# Altium integrated library Silicon Labs Modems and DAAs.IntLib: 95 symbols (part 6 of 7)
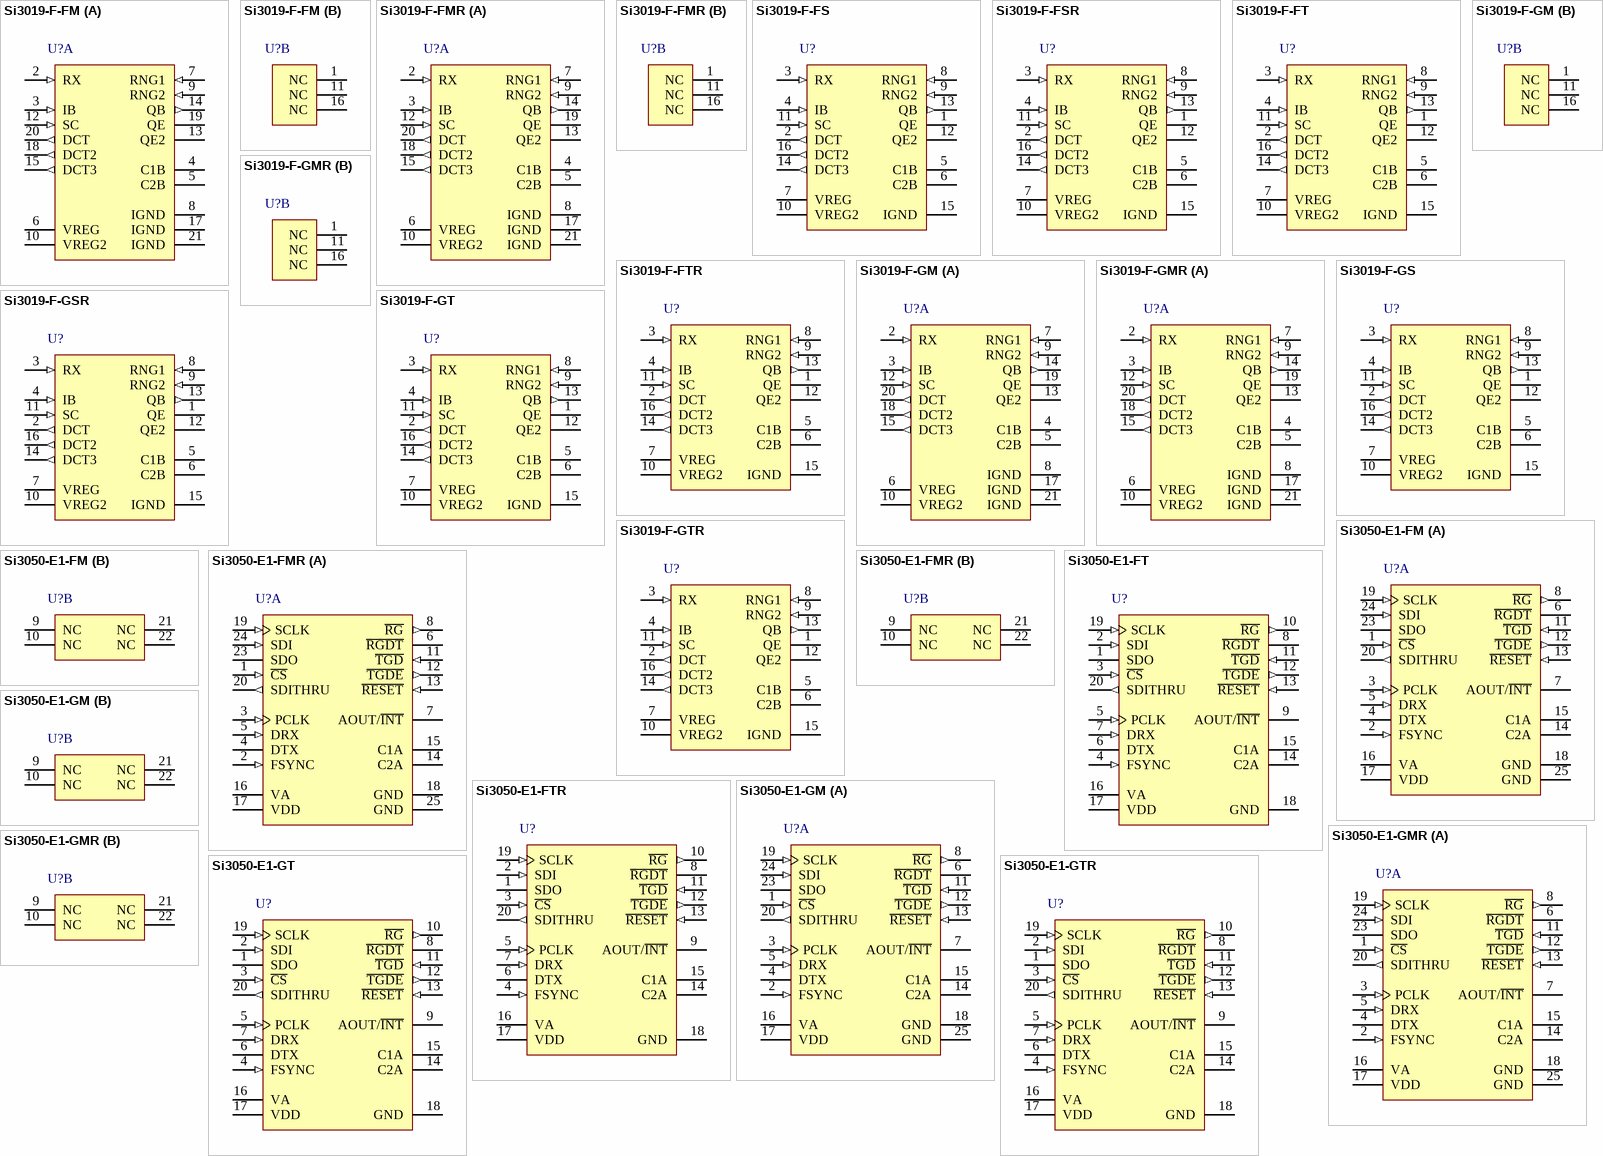
[diagram p9: symbols Si3019-F-FM to Si3050-E1-GTR]

## Si3050-E1-FT
designator U?
Programmable Voice DAA Solutions with Line Voltage Monitor, 0 to 70 degC, 20-pin SOP, Tube; Manufacturer: Silicon Labs; PartNumber: Si3050-E1-FT; AC Termination Settings: 2, 4, 16; Host Interface: GCI; PCM/SPI; Line Voltage Monitor: TRUE; Region: Global; Sub-Family: Silicon DAAs; DatasheetVersion: Rev. 1.5; PackageReference: TSSOP-20; PackageDescription: 20-Pin Thin Shrink Small-Outline Package, Body 6.5 x 4.4 mm, Pitch 0.65 mm; Supplier 1: Digi-Key; Supplier Part Number 1: SI3050-E1-FT-ND; Supplier 2: Mouser; Supplier Part Number 2: 634-SI3050-E1-FT; Packing: Tube; Mounting Technology: Surface Mount; Code_JEDEC: MO-153; Code_IPC: J-STD-020; ComponentLink1Description: Manufacturer URL; ComponentLink1URL: http://www.silabs.com/; ComponentLink2Description: Datasheet; ComponentLink2URL: http://www.silabs.com/Support%20Documents/TechnicalDocs/Si3050-11-18-19.pdf; ComponentLink3Description: Package Specification; ComponentLink3URL: http://www.silabs.com/Support Documents/TechnicalDocs/C8051F52x-F53x.pdf
footprint SLAB-TSSOP-20_N (SOP, 20-Leads, Body 6.6x4.5mm, Pitch 0.65mm, , IPC Medium Density)
footprint SLAB-TSSOP-20_L (SOP, 20-Leads, Body 6.6x4.5mm, Pitch 0.65mm, IPC High Density)
footprint SLAB-TSSOP-20_M (SOP, 20-Leads, Body 6.6x4.5mm, Pitch 0.65mm, IPC Low Density)
pins: 1 SDO (hiz) "Serial Port Data Output.", 2 SDI (in) "Serial Port Data Input.", 3 ~{CS} (in) "Chip Select Input.", 4 FSYNC (in) "Frame Sync Input.", 5 PCLK (in) "Master Clock Input.", 6 DTX (hiz) "Transmit PCM or GCI Highway Data Output.", 7 DRX (in) "Receive PCM or GCI Highway Data Input.", 8 ~{RGDT} (oc) "Ring Detect Output", 9 AOUT/~{INT} (oc) "Analog Speaker Output/Interrupt Output.", 10 ~{RG} (out) "Ring Ground Output.", 11 ~{TGD} (in) "TIP Ground Detect Input.", 12 ~{TGDE} (out) "TIP Ground Detect Enable Output.", 13 ~{RESET} (in) "Reset Input.", 14 C2A "Isolation Capacitor 2A.", 15 C1A "Isolation Capacitor 1A.", 16 VA (power) "Regulator Voltage Reference.", 17 VDD (power) "Digital Supply Voltage", 18 GND (power) "Ground", 19 SCLK (in) "Serial Port Bit Clock Input.", 20 SDITHRU (out) "SDI Passthrough Output."

## Si3050-E1-FTR
designator U?
Programmable Voice DAA Solutions with Line Voltage Monitor, 0 to 70 degC, 20-pin SOP, Tape and Reel; Manufacturer: Silicon Labs; PartNumber: Si3050-E1-FTR; AC Termination Settings: 2, 4, 16; Host Interface: GCI; PCM/SPI; Line Voltage Monitor: TRUE; Region: Global; Sub-Family: Silicon DAAs; DatasheetVersion: Rev. 1.5; PackageReference: TSSOP-20; PackageDescription: 20-Pin Thin Shrink Small-Outline Package, Body 6.5 x 4.4 mm, Pitch 0.65 mm; Supplier 1: Digi-Key; Supplier Part Number 1: SI3050-E1-FTR-ND; Supplier 2: Mouser; Supplier Part Number 2: 634-SI3050-E1-FTR; Packing: Tape and Reel; Mounting Technology: Surface Mount; Code_JEDEC: MO-153; Code_IPC: J-STD-020; ComponentLink1Description: Manufacturer URL; ComponentLink1URL: http://www.silabs.com/; ComponentLink2Description: Datasheet; ComponentLink2URL: http://www.silabs.com/Support%20Documents/TechnicalDocs/Si3050-11-18-19.pdf; ComponentLink3Description: Package Specification; ComponentLink3URL: http://www.silabs.com/Support Documents/TechnicalDocs/C8051F52x-F53x.pdf
footprint SLAB-TSSOP-20_N (SOP, 20-Leads, Body 6.6x4.5mm, Pitch 0.65mm, , IPC Medium Density)
footprint SLAB-TSSOP-20_L (SOP, 20-Leads, Body 6.6x4.5mm, Pitch 0.65mm, IPC High Density)
footprint SLAB-TSSOP-20_M (SOP, 20-Leads, Body 6.6x4.5mm, Pitch 0.65mm, IPC Low Density)
pins: 1 SDO (hiz) "Serial Port Data Output.", 2 SDI (in) "Serial Port Data Input.", 3 ~{CS} (in) "Chip Select Input.", 4 FSYNC (in) "Frame Sync Input.", 5 PCLK (in) "Master Clock Input.", 6 DTX (hiz) "Transmit PCM or GCI Highway Data Output.", 7 DRX (in) "Receive PCM or GCI Highway Data Input.", 8 ~{RGDT} (oc) "Ring Detect Output", 9 AOUT/~{INT} (oc) "Analog Speaker Output/Interrupt Output.", 10 ~{RG} (out) "Ring Ground Output.", 11 ~{TGD} (in) "TIP Ground Detect Input.", 12 ~{TGDE} (out) "TIP Ground Detect Enable Output.", 13 ~{RESET} (in) "Reset Input.", 14 C2A "Isolation Capacitor 2A.", 15 C1A "Isolation Capacitor 1A.", 16 VA (power) "Regulator Voltage Reference.", 17 VDD (power) "Digital Supply Voltage", 18 GND (power) "Ground", 19 SCLK (in) "Serial Port Bit Clock Input.", 20 SDITHRU (out) "SDI Passthrough Output."

## Si3050-E1-GM
designator U?
Programmable Voice DAA Solutions with Line Voltage Monitor, -40 to 85 degC, 24-pin QFN, Tube; Manufacturer: Silicon Labs; PartNumber: Si3050-E1-GM; AC Termination Settings: 2, 4, 16; Host Interface: GCI; PCM/SPI; Line Voltage Monitor: TRUE; Region: Global; Sub-Family: Silicon DAAs; DatasheetVersion: Rev. 1.5; PackageReference: QFN-24; PackageDescription: 24-Pin Quad-Flat No-Leads Package, Body 4 x 4 mm, Pitch 0.5 mm; Supplier 1: Digi-Key; Supplier Part Number 1: SI3050-E1-GM-ND; Supplier 2: Mouser; Supplier Part Number 2: 634-SI3050-E1-GM; Packing: Tube; Mounting Technology: Surface Mount; Code_IPC: J-STD-020; ComponentLink1Description: Manufacturer URL; ComponentLink1URL: http://www.silabs.com/; ComponentLink2Description: Datasheet; ComponentLink2URL: http://www.silabs.com/Support%20Documents/TechnicalDocs/Si3050-11-18-19.pdf; ComponentLink3Description: Package Specification; ComponentLink3URL: http://www.silabs.com/Support%20Documents/TechnicalDocs/Si3050-11-18-19.pdf
footprint SLAB-QFN-24-2200x2500TP_N (QFN, 24-Leads, Body 4x4mm, Pitch 0.5mm, Thermal Pad 2.2 x 2.5mm, IPC Medium Density)
footprint SLAB-QFN-24-2200x2500TP_L (QFN, 24-Leads, Body 4x4mm, Pitch 0.5mm, Thermal Pad 2.2 x 2.5mm, IPC High Density)
footprint SLAB-QFN-24-2200x2500TP_M (QFN, 24-Leads, Body 4x4mm, Pitch 0.5mm, Thermal Pad 2.2 x 2.5mm, IPC Low Density)
part A pins: 1 ~{CS} (in) "Chip Select Input.", 2 FSYNC (in) "Frame Sync Input.", 3 PCLK (in) "Master Clock Input.", 4 DTX (hiz) "Transmit PCM or GCI Highway Data Output.", 5 DRX (in) "Receive PCM or GCI Highway Data Input.", 6 ~{RGDT} (oc) "Ring Detect Output", 7 AOUT/~{INT} (oc) "Analog Speaker Output/Interrupt Output.", 8 ~{RG} (out) "Ring Ground Output.", 11 ~{TGD} (in) "TIP Ground Detect Input.", 12 ~{TGDE} (out) "TIP Ground Detect Enable Output.", 13 ~{RESET} (in) "Reset Input.", 14 C2A "Isolation Capacitor 2A.", 15 C1A "Isolation Capacitor 1A.", 16 VA (power) "Regulator Voltage Reference.", 17 VDD (power) "Digital Supply Voltage", 18 GND (power) "Ground", 19 SCLK (in) "Serial Port Bit Clock Input.", 20 SDITHRU (out) "SDI Passthrough Output.", 23 SDO (hiz) "Serial Port Data Output.", 24 SDI (in) "Serial Port Data Input.", 25 GND (power) "Ground"
part B pins: 9 NC "No connect.", 10 NC "No connect.", 21 NC "No connect.", 22 NC "No connect."

## Si3050-E1-GMR
designator U?
Programmable Voice DAA Solutions with Line Voltage Monitor, -40 to 85 degC, 24-pin QFN, Tape and Reel; Manufacturer: Silicon Labs; PartNumber: Si3050-E1-GMR; AC Termination Settings: 2, 4, 16; Host Interface: GCI; PCM/SPI; Line Voltage Monitor: TRUE; Region: Global; Sub-Family: Silicon DAAs; DatasheetVersion: Rev. 1.5; PackageReference: QFN-24; PackageDescription: 24-Pin Quad-Flat No-Leads Package, Body 4 x 4 mm, Pitch 0.5 mm; Supplier 1: Digi-Key; Supplier Part Number 1: SI3050-E1-GMR-ND; Supplier 2: Mouser; Supplier Part Number 2: 634-SI3050-E1-GMR; Packing: Tape and Reel; Mounting Technology: Surface Mount; Code_IPC: J-STD-020; ComponentLink1Description: Manufacturer URL; ComponentLink1URL: http://www.silabs.com/; ComponentLink2Description: Datasheet; ComponentLink2URL: http://www.silabs.com/Support%20Documents/TechnicalDocs/Si3050-11-18-19.pdf; ComponentLink3Description: Package Specification; ComponentLink3URL: http://www.silabs.com/Support%20Documents/TechnicalDocs/Si3050-11-18-19.pdf
footprint SLAB-QFN-24-2200x2500TP_N (QFN, 24-Leads, Body 4x4mm, Pitch 0.5mm, Thermal Pad 2.2 x 2.5mm, IPC Medium Density)
footprint SLAB-QFN-24-2200x2500TP_L (QFN, 24-Leads, Body 4x4mm, Pitch 0.5mm, Thermal Pad 2.2 x 2.5mm, IPC High Density)
footprint SLAB-QFN-24-2200x2500TP_M (QFN, 24-Leads, Body 4x4mm, Pitch 0.5mm, Thermal Pad 2.2 x 2.5mm, IPC Low Density)
part A pins: 1 ~{CS} (in) "Chip Select Input.", 2 FSYNC (in) "Frame Sync Input.", 3 PCLK (in) "Master Clock Input.", 4 DTX (hiz) "Transmit PCM or GCI Highway Data Output.", 5 DRX (in) "Receive PCM or GCI Highway Data Input.", 6 ~{RGDT} (oc) "Ring Detect Output", 7 AOUT/~{INT} (oc) "Analog Speaker Output/Interrupt Output.", 8 ~{RG} (out) "Ring Ground Output.", 11 ~{TGD} (in) "TIP Ground Detect Input.", 12 ~{TGDE} (out) "TIP Ground Detect Enable Output.", 13 ~{RESET} (in) "Reset Input.", 14 C2A "Isolation Capacitor 2A.", 15 C1A "Isolation Capacitor 1A.", 16 VA (power) "Regulator Voltage Reference.", 17 VDD (power) "Digital Supply Voltage", 18 GND (power) "Ground", 19 SCLK (in) "Serial Port Bit Clock Input.", 20 SDITHRU (out) "SDI Passthrough Output.", 23 SDO (hiz) "Serial Port Data Output.", 24 SDI (in) "Serial Port Data Input.", 25 GND (power) "Ground"
part B pins: 9 NC "No connect.", 10 NC "No connect.", 21 NC "No connect.", 22 NC "No connect."

## Si3050-E1-GT
designator U?
Programmable Voice DAA Solutions with Line Voltage Monitor, -40 to 85 degC, 20-pin SOP, Tube; Manufacturer: Silicon Labs; PartNumber: Si3050-E1-GT; AC Termination Settings: 2, 4, 16; Host Interface: GCI; PCM/SPI; Line Voltage Monitor: TRUE; Region: Global; Sub-Family: Silicon DAAs; DatasheetVersion: Rev. 1.5; PackageReference: TSSOP-20; PackageDescription: 20-Pin Thin Shrink Small-Outline Package, Body 6.5 x 4.4 mm, Pitch 0.65 mm; Supplier 1: Digi-Key; Supplier Part Number 1: SI3050-E1-GT-ND; Supplier 2: Mouser; Supplier Part Number 2: 634-SI3050-E1-GT; Packing: Tube; Mounting Technology: Surface Mount; Code_JEDEC: MO-153; Code_IPC: J-STD-020; ComponentLink1Description: Manufacturer URL; ComponentLink1URL: http://www.silabs.com/; ComponentLink2Description: Datasheet; ComponentLink2URL: http://www.silabs.com/Support%20Documents/TechnicalDocs/Si3050-11-18-19.pdf; ComponentLink3Description: Package Specification; ComponentLink3URL: http://www.silabs.com/Support Documents/TechnicalDocs/C8051F52x-F53x.pdf
footprint SLAB-TSSOP-20_N (SOP, 20-Leads, Body 6.6x4.5mm, Pitch 0.65mm, , IPC Medium Density)
footprint SLAB-TSSOP-20_L (SOP, 20-Leads, Body 6.6x4.5mm, Pitch 0.65mm, IPC High Density)
footprint SLAB-TSSOP-20_M (SOP, 20-Leads, Body 6.6x4.5mm, Pitch 0.65mm, IPC Low Density)
pins: 1 SDO (hiz) "Serial Port Data Output.", 2 SDI (in) "Serial Port Data Input.", 3 ~{CS} (in) "Chip Select Input.", 4 FSYNC (in) "Frame Sync Input.", 5 PCLK (in) "Master Clock Input.", 6 DTX (hiz) "Transmit PCM or GCI Highway Data Output.", 7 DRX (in) "Receive PCM or GCI Highway Data Input.", 8 ~{RGDT} (oc) "Ring Detect Output", 9 AOUT/~{INT} (oc) "Analog Speaker Output/Interrupt Output.", 10 ~{RG} (out) "Ring Ground Output.", 11 ~{TGD} (in) "TIP Ground Detect Input.", 12 ~{TGDE} (out) "TIP Ground Detect Enable Output.", 13 ~{RESET} (in) "Reset Input.", 14 C2A "Isolation Capacitor 2A.", 15 C1A "Isolation Capacitor 1A.", 16 VA (power) "Regulator Voltage Reference.", 17 VDD (power) "Digital Supply Voltage", 18 GND (power) "Ground", 19 SCLK (in) "Serial Port Bit Clock Input.", 20 SDITHRU (out) "SDI Passthrough Output."

## Si3050-E1-GTR
designator U?
Programmable Voice DAA Solutions with Line Voltage Monitor, -40 to 85 degC, 20-pin SOP, Tape and Reel; Manufacturer: Silicon Labs; PartNumber: Si3050-E1-GTR; AC Termination Settings: 2, 4, 16; Host Interface: GCI; PCM/SPI; Line Voltage Monitor: TRUE; Region: Global; Sub-Family: Silicon DAAs; DatasheetVersion: Rev. 1.5; PackageReference: TSSOP-20; PackageDescription: 20-Pin Thin Shrink Small-Outline Package, Body 6.5 x 4.4 mm, Pitch 0.65 mm; Supplier 1: Digi-Key; Supplier Part Number 1: SI3050-E1-GTR-ND; Supplier 2: Mouser; Supplier Part Number 2: 634-SI3050-E1-GTR; Packing: Tape and Reel; Mounting Technology: Surface Mount; Code_JEDEC: MO-153; Code_IPC: J-STD-020; ComponentLink1Description: Manufacturer URL; ComponentLink1URL: http://www.silabs.com/; ComponentLink2Description: Datasheet; ComponentLink2URL: http://www.silabs.com/Support%20Documents/TechnicalDocs/Si3050-11-18-19.pdf; ComponentLink3Description: Package Specification; ComponentLink3URL: http://www.silabs.com/Support Documents/TechnicalDocs/C8051F52x-F53x.pdf
footprint SLAB-TSSOP-20_N (SOP, 20-Leads, Body 6.6x4.5mm, Pitch 0.65mm, , IPC Medium Density)
footprint SLAB-TSSOP-20_L (SOP, 20-Leads, Body 6.6x4.5mm, Pitch 0.65mm, IPC High Density)
footprint SLAB-TSSOP-20_M (SOP, 20-Leads, Body 6.6x4.5mm, Pitch 0.65mm, IPC Low Density)
pins: 1 SDO (hiz) "Serial Port Data Output.", 2 SDI (in) "Serial Port Data Input.", 3 ~{CS} (in) "Chip Select Input.", 4 FSYNC (in) "Frame Sync Input.", 5 PCLK (in) "Master Clock Input.", 6 DTX (hiz) "Transmit PCM or GCI Highway Data Output.", 7 DRX (in) "Receive PCM or GCI Highway Data Input.", 8 ~{RGDT} (oc) "Ring Detect Output", 9 AOUT/~{INT} (oc) "Analog Speaker Output/Interrupt Output.", 10 ~{RG} (out) "Ring Ground Output.", 11 ~{TGD} (in) "TIP Ground Detect Input.", 12 ~{TGDE} (out) "TIP Ground Detect Enable Output.", 13 ~{RESET} (in) "Reset Input.", 14 C2A "Isolation Capacitor 2A.", 15 C1A "Isolation Capacitor 1A.", 16 VA (power) "Regulator Voltage Reference.", 17 VDD (power) "Digital Supply Voltage", 18 GND (power) "Ground", 19 SCLK (in) "Serial Port Bit Clock Input.", 20 SDITHRU (out) "SDI Passthrough Output."

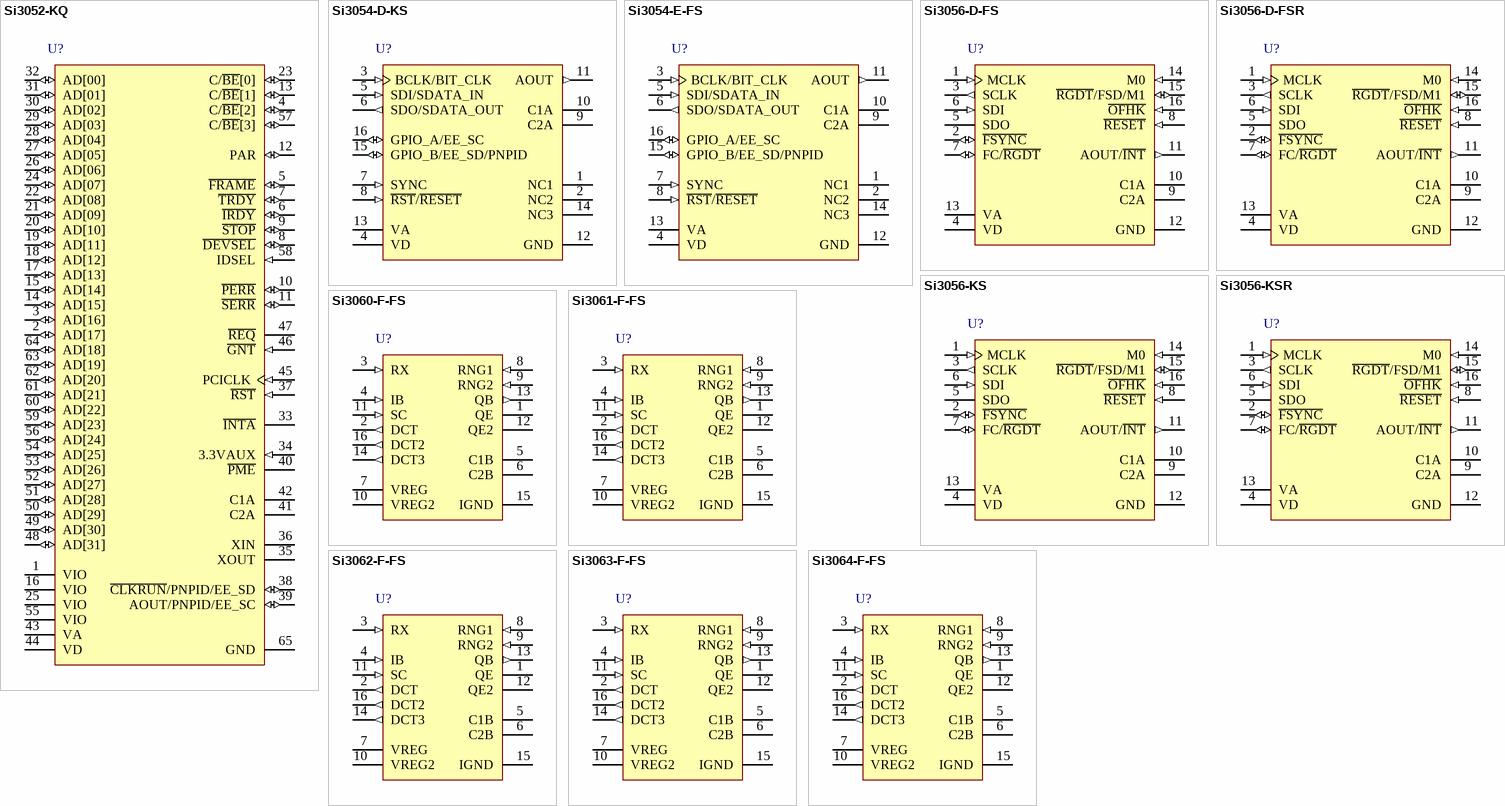
[diagram p4: symbols Si3052-KQ to Si3064-F-FS]

## Si3052-KQ
designator U?
Global PCI DAA Chipset with Line Voltage Monitor, 0 to 70 degC, 64-pin QFP, Tube; Manufacturer: Silicon Labs; PartNumber: Si3052-KQ; AC Termination Settings: 4; Line Voltage Monitor: TRUE; Sub-Family: Silicon DAAs; DatasheetVersion: Rev. 1.0; PackageVersion: Rev. 1.0, 07/2003; PackageReference: TQFP-64; PackageDescription: 64-Pin Thin Quad Flat Package, Body 10 x 10 mm, Pitch 0.5 mm; Host Interface: PCI; Packing: Tube; Region: Global; Mounting Technology: Surface Mount; ComponentLink1Description: Manufacturer URL; ComponentLink1URL: http://www.silabs.com/; ComponentLink2Description: Datasheet; ComponentLink2URL: http://www.silabs.com/Support%20Documents/TechnicalDocs/si3052-18.pdf; ComponentLink3Description: Package Specification; ComponentLink3URL: http://www.silabs.com/Support%20Documents/TechnicalDocs/si3052-18.pdf
footprint SLAB-TQFP-64-4500x4500 TP_N (QFP, 64-Leads, Body 10x10mm, Pitch 0.5mm, Thermal Pad 4.5x4.5mm, IPC Medium Density)
footprint SLAB-TQFP-64-4500x4500 TP_L (QFP, 64-Leads, Body 10x10mm, Pitch 0.5mm, Thermal Pad 4.5x4.5mm, IPC High Density)
footprint SLAB-TQFP-64-4500x4500 TP_M (QFP, 64-Leads, Body 10x10mm, Pitch 0.5mm, Thermal Pad 4.5x4.5mm, IPC Low Density)
pins: 1 VIO (power) "3.3/5 V IO Digital Supply Input.", 2 AD[17] (io) "Address/Data Bit Input/Output.", 3 AD[16] (io) "Address/Data Bit Input/Output.", 4 C/~{BE}[2] (io) "Command/Byte Enable Bit Input/Output.", 5 ~{FRAME} (io) "Cycle Frame Indicator Input/Output.", 6 ~{IRDY} (io) "Initiator Ready Input/Output.", 7 ~{TRDY} (io) "Target Ready Input/Output.", 8 ~{DEVSEL} (io) "Device Select Input/Output.", 9 ~{STOP} (io) "Stop Transaction Input/Output.", 10 ~{PERR} (io) "Parity Error Input/Output.", 11 ~{SERR} (io) "System Error Input/Output.", 12 PAR (io) "Address/Data Parity Bit Input/Output.", 13 C/~{BE}[1] (io) "Command/Byte Enable Bit Input/Output.", 14 AD[15] (io) "Address/Data Bit Input/Output.", 15 AD[14] (io) "Address/Data Bit Input/Output.", 16 VIO (power) "3.3/5 VIO Digital Supply Input.", 17 AD[13] (io) "Address/Data Bit Input/Output.", 18 AD[12] (io) "Address/Data Bit Input/Output.", 19 AD[11] (io) "Address/Data Bit Input/Output.", 20 AD[10] (io) "Address/Data Bit Input/Output.", 21 AD[09] (io) "Address/Data Bit Input/Output.", 22 AD[08] (io) "Address/Data Bit Input/Output.", 23 C/~{BE}[0] (io) "Command/Byte Enable Bit Input/Output.", 24 AD[07] (io) "Address/Data Bit Input/Output.", 25 VIO (power) "3.3/5 V IO Digital Supply Input.", 26 AD[06] (io) "Address/Data Bit Input/Output.", 27 AD[05] (io) "Address/Data Bit Input/Output.", 28 AD[04] (io) "Address/Data Bit Input/Output.", 29 AD[03] (io) "Address/Data Bit Input/Output.", 30 AD[02] (io) "Address/Data Bit Input/Output.", 31 AD[01] (io) "Address/Data Bit Input/Output.", 32 AD[00] (io) "Address/Data Bit Input/Output.", 33 ~{INTA} (oc) "PCI Interrupt Output (Open Drain).", 34 3.3VAUX (in) "3.3 Vaux Sense Input.", 35 XOUT "Crystal Output.", 36 XIN "Crystal Input.", 37 ~{RST} (in) "PCI Device Reset Input.", 38 ~{CLKRUN}/PNPID/EE_SD (io), 39 AOUT/PNPID/EE_SC (io), 40 ~{PME} (oc) "Power Management Event Output (Open Drain).", 41 C2A "Isolation Capacitor 2 A Input/Output.", 42 C1A "Isolation Capacitor 1 A Input/Output.", 43 VA (power) "Voltage Regulator Bypass Output.", 44 VD (power) "3.3 V Digital Supply Input.", 45 PCICLK (in) "PCI Bus Clock Input.", 46 ~{GNT} (in) "Master Grant Input.", 47 ~{REQ} (hiz) "Master Request Output (Tri-State).", 48 AD[31] (io) "Address/Data Bit Input/Output.", 49 AD[30] (io) "Address/Data Bit Input/Output.", 50 AD[29] (io) "Address/Data Bit Input/Output.", 51 AD[28] (io) "Address/Data Bit Input/Output.", 52 AD[27] (io) "Address/Data Bit Input/Output.", 53 AD[26] (io) "Address/Data Bit Input/Output.", 54 AD[25] (io) "Address/Data Bit Input/Output.", 55 VIO (power) "3.3/5 V ID Digital Supply Input.", 56 AD[24] (io) "Address/Data Bit Input/Output.", 57 C/~{BE}[3] (io) "Command/Byte Enable Bit Input/Output.", 58 IDSEL (in) "Initialize Device Select Input.", 59 AD[23] (io) "Address/Data Bit Input/Output.", 60 AD[22] (io) "Address/Data Bit Input/Output.", 61 AD[21] (io) "Address/Data Bit Input/Output.", 62 AD[20] (io) "Address/Data Bit Input/Output.", 63 AD[19] (io) "Address/Data Bit Input/Output.", 64 AD[18] (io) "Address/Data Bit Input/Output.", 65 GND (power) "Exposed Die Paddle Ground."

## Si3054-D-KS
designator U?
Global Dual Mode HD Audio / AC’97 Silicon DAA with Line Voltage Monitor, 0 to 70 degC, 16-pin SOIC, Tube; Manufacturer: Silicon Labs; PartNumber: Si3054-D-KS; AC Termination Settings: 4; Host Interface: HD Audio/ac-link; Line Voltage Monitor: TRUE; Sub-Family: Silicon DAAs; DatasheetVersion: Rev. 1.0; PackageReference: SOIC-16-NB; PackageDescription: 16-Pin Small-Outline Integrated Circuit, Body 9.9 x 3.9 mm, Pitch 1.27 mm; Packing: Tube; Region: Global; Mounting Technology: Surface Mount; Code_JEDEC: MS-012; Code_IPC: J-STD-020; ComponentLink1Description: Manufacturer URL; ComponentLink1URL: http://www.silabs.com/; ComponentLink2Description: Datasheet; ComponentLink2URL: http://www.silabs.com/Support%20Documents/TechnicalDocs/si3054-18.pdf; ComponentLink3Description: Package Specification; ComponentLink3URL: http://www.silabs.com/Support%20Documents/TechnicalDocs/si2401.pdf
footprint SLAB-SOIC-16-NB_N (SOIC, 16-Leads, Body 9.9x3.9mm, Pitch 1.27mm, IPC Medium Density)
footprint SLAB-SOIC-16-NB_L (SOIC, 16-Leads, Body 9.9x3.9mm, Pitch 1.27mm, IPC High Density)
footprint SLAB-SOIC-16-NB_M (SOIC, 16-Leads, Body 9.9x3.9mm, Pitch 1.27mm, IPC Low Density)
pins: 1 NC1 "No Connect.", 2 NC2 "No Connect.", 3 BCLK/BIT_CLK (in) "Serial Port Clock. Clock signal generated by a primary codec (AC ‘97 mode BIT_CLK) or the clock signal generated by the HD Audio controller (BCLK). The clock signal controls the serial data in SDI/SDATA_IN and latches th(See Datasheet)", 4 VD (power) "Digital Power Supply. Provides the 3.3V digital supply voltage to the Si3054.", 5 SDI/SDATA_IN (in) "Serial Data In. Serial communication and status data that is provided by the Si3054  to the digital controller.", 6 SDO/SDATA_OUT (out) "Serial Data Out. Serial communication and control data that is generated by the digital controller and presented as an input to the Si3054.", 7 SYNC (in) "Frame Sync Input. Data framing signal that is used to indicate the start and stop of a communication data frame.", 8 ~{RST}/~{RESET} (in) "Reset Input. An active low input that is used to reset all control registers to a defined, initialized state. Also used to bring the Si3054 out of sleep mode.", 9 C2A "Isolation Capacitor 2A Input/Output. Differential isolation for communication with the DAA line-side device.", 10 C1A "Isolation Capacitor 1A Input/Output. Differential isolation for communication with the DAA line-side device.", 11 AOUT (out) "Analog Speaker Output. Provides an analog output or PWM signal for driving a call progress  speaker.", 12 GND (power) "Ground. Connects to the system digital ground.", 13 VA (power) "Voltage Regulator. Connects to an external capacitor to provide bypassing for an internal power supply.", 14 NC3 "No Connect.", 15 GPIO_B/EE_SD/PNPID (io) "General Purpose I/O B. Programmable via registers 4Ch-54h (AC ‘97 mode), or NIDs 5-10 (HD Audio mode). EPROM Serial Data. I/O interface to external serial EPROM. PnP ID Select Input. Resistor selection for Plug-n-Pla(See Datasheet)", 16 GPIO_A/EE_SC (io) "General Purpose I/O A. Programmable via registers 4Ch-54h (AC ‘97 mode), or NIDs 5-10 (HD Audio mode). EPROM Serial Clock. Output to external serial EPROM."

## Si3054-E-FS
designator U?
Global Dual Mode HD Audio / AC’97 Silicon DAA with Line Voltage Monitor, 0 to 70 degC, 16-pin SOIC, Tube; Manufacturer: Silicon Labs; PartNumber: Si3054-E-FS; AC Termination Settings: 4; Host Interface: HD Audio/ac-link; Line Voltage Monitor: TRUE; Sub-Family: Silicon DAAs; DatasheetVersion: Rev. 1.0; PackageReference: SOIC-16-NB; PackageDescription: 16-Pin Small-Outline Integrated Circuit, Body 9.9 x 3.9 mm, Pitch 1.27 mm; Packing: Tube; Region: Global; Mounting Technology: Surface Mount; Code_JEDEC: MS-012; Code_IPC: J-STD-020; ComponentLink1Description: Manufacturer URL; ComponentLink1URL: http://www.silabs.com/; ComponentLink2Description: Datasheet; ComponentLink2URL: http://www.silabs.com/Support%20Documents/TechnicalDocs/si3054-18.pdf; ComponentLink3Description: Package Specification; ComponentLink3URL: http://www.silabs.com/Support%20Documents/TechnicalDocs/si2401.pdf
footprint SLAB-SOIC-16-NB_N (SOIC, 16-Leads, Body 9.9x3.9mm, Pitch 1.27mm, IPC Medium Density)
footprint SLAB-SOIC-16-NB_L (SOIC, 16-Leads, Body 9.9x3.9mm, Pitch 1.27mm, IPC High Density)
footprint SLAB-SOIC-16-NB_M (SOIC, 16-Leads, Body 9.9x3.9mm, Pitch 1.27mm, IPC Low Density)
pins: 1 NC1 "No Connect.", 2 NC2 "No Connect.", 3 BCLK/BIT_CLK (in) "Serial Port Clock. Clock signal generated by a primary codec (AC ‘97 mode BIT_CLK) or the clock signal generated by the HD Audio controller (BCLK). The clock signal controls the serial data in SDI/SDATA_IN and latches th(See Datasheet)", 4 VD (power) "Digital Power Supply. Provides the 3.3V digital supply voltage to the Si3054.", 5 SDI/SDATA_IN (in) "Serial Data In. Serial communication and status data that is provided by the Si3054  to the digital controller.", 6 SDO/SDATA_OUT (out) "Serial Data Out. Serial communication and control data that is generated by the digital controller and presented as an input to the Si3054.", 7 SYNC (in) "Frame Sync Input. Data framing signal that is used to indicate the start and stop of a communication data frame.", 8 ~{RST}/~{RESET} (in) "Reset Input. An active low input that is used to reset all control registers to a defined, initialized state. Also used to bring the Si3054 out of sleep mode.", 9 C2A "Isolation Capacitor 2A Input/Output. Differential isolation for communication with the DAA line-side device.", 10 C1A "Isolation Capacitor 1A Input/Output. Differential isolation for communication with the DAA line-side device.", 11 AOUT (out) "Analog Speaker Output. Provides an analog output or PWM signal for driving a call progress  speaker.", 12 GND (power) "Ground. Connects to the system digital ground.", 13 VA (power) "Voltage Regulator. Connects to an external capacitor to provide bypassing for an internal power supply.", 14 NC3 "No Connect.", 15 GPIO_B/EE_SD/PNPID (io) "General Purpose I/O B. Programmable via registers 4Ch-54h (AC ‘97 mode), or NIDs 5-10 (HD Audio mode). EPROM Serial Data. I/O interface to external serial EPROM. PnP ID Select Input. Resistor selection for Plug-n-Pla(See Datasheet)", 16 GPIO_A/EE_SC (io) "General Purpose I/O A. Programmable via registers 4Ch-54h (AC ‘97 mode), or NIDs 5-10 (HD Audio mode). EPROM Serial Clock. Output to external serial EPROM."

## Si3056-D-FS
designator U?
Global Serial Interface Direct Access Arrangement with Line Voltage Monitor, 0 to 70 degC, 16-pin SOIC, Tube; Manufacturer: Silicon Labs; PartNumber: Si3056-D-FS; AC Termination Settings: 4; 16; Host Interface: SSI; Line Voltage Monitor: TRUE; Sub-Family: Silicon DAAs; DatasheetVersion: Rev. 1.05; PackageReference: SOIC-16-NB; PackageDescription: 16-Pin Small-Outline Integrated Circuit, Body 9.9 x 3.9 mm, Pitch 1.27 mm; Supplier 1: Digi-Key; Supplier Part Number 1: SI3056-D-FS-ND; Supplier 2: Mouser; Supplier Part Number 2: 634-SI3056-D-FS; Packing: Tube; Region: Global; Mounting Technology: Surface Mount; Code_JEDEC: MS-012; Code_IPC: J-STD-020; ComponentLink1Description: Manufacturer URL; ComponentLink1URL: http://www.silabs.com/; ComponentLink2Description: Datasheet; ComponentLink2URL: https://www.silabs.com/Support%20Documents/TechnicalDocs/si3056.pdf; ComponentLink3Description: Package Specification; ComponentLink3URL: http://www.silabs.com/Support%20Documents/TechnicalDocs/si2401.pdf
footprint SLAB-SOIC-16-NB_N (SOIC, 16-Leads, Body 9.9x3.9mm, Pitch 1.27mm, IPC Medium Density)
footprint SLAB-SOIC-16-NB_L (SOIC, 16-Leads, Body 9.9x3.9mm, Pitch 1.27mm, IPC High Density)
footprint SLAB-SOIC-16-NB_M (SOIC, 16-Leads, Body 9.9x3.9mm, Pitch 1.27mm, IPC Low Density)
pins: 1 MCLK (in) "Master Clock Input. High speed master clock input. Generally supplied by the system crystal clock or modem/DSP.", 2 ~{FSYNC} (io) "Frame Sync Output. Data framing signal that indicates the start and stop of a communication/data frame.", 3 SCLK (out) "Serial Port Bit Clock Output. Controls the serial data on SDO and latches the data on SDI.", 4 VD (power) "Digital Supply Voltage. Provides the 3.3 V digital supply voltage to the Si3056.", 5 SDO (hiz) "Serial Port Data Out. Serial communication data that is provided by the Si3056 to the modem/DSP.", 6 SDI (in) "Serial Port Data In. Serial communication and control data that is generated by the modem/DSP and presented as an input to the Si3056.", 7 FC/~{RGDT} (io) "Secondary Transfer Request Input/Ring Detect. An optional signal to instruct the Si3056 that control data is being requested in a secondary frame. When daisy chain is enabled, this pin becomes the ring detect output.  (See Datasheet)", 8 ~{RESET} (in) "Reset Input. An active low input that resets all control registers to a defined, initialized state. Also  used to bring the Si3056 out of sleep mode.", 9 C2A "Isolation Capacitor 2A. Connects to one side of the isolation capacitor C2. Used to communicate with the lineside device.", 10 C1A "Isolation Capacitor 1A. Connects to one side of the isolation capacitor C1. Used to communicate with the lineside device.", 11 AOUT/~{INT} (out) "Analog Speaker Out/Interrupt. Provides an analog output signal for driving a call progress speaker or a hardware  interrupt for multiple sources of interrupts.", 12 GND (power) "Ground. Connects to the system digital ground.", 13 VA (power) "Analog Supply Voltage. Provides the analog supply voltage for the Si3056.", 14 M0 (in) "Mode Select 0. The first of two mode select pins that selects the operation of the serial port/DSP interface.", 15 ~{RGDT}/FSD/M1 (io) "Ring Detect/Delayed Frame Sync/Mode Select 1. Output signal that indicates the status of a ring signal. Produces an active low rectified  version of the ring signal. When daisy chain is enabled, this signal becomes a delayed (See Datasheet)", 16 ~{OFHK} (in) "Off-Hook. An active low input control signal that provides a termination across TIP and RING for  line seizing and pulse dialing"

## Si3056-D-FSR
designator U?
Global Serial Interface Direct Access Arrangement with Line Voltage Monitor, 0 to 70 degC, 16-pin SOIC, Tape and Reel; Manufacturer: Silicon Labs; PartNumber: Si3056-D-FSR; AC Termination Settings: 4; 16; Host Interface: SSI; Line Voltage Monitor: TRUE; Sub-Family: Silicon DAAs; DatasheetVersion: Rev. 1.05; PackageReference: SOIC-16-NB; PackageDescription: 16-Pin Small-Outline Integrated Circuit, Body 9.9 x 3.9 mm, Pitch 1.27 mm; Supplier 1: Digi-Key; Supplier Part Number 1: SI3056-D-FSR-ND; Supplier 2: Mouser; Supplier Part Number 2: 634-SI3056-D-FSR; Packing: Tape and Reel; Region: Global; Mounting Technology: Surface Mount; Code_JEDEC: MS-012; Code_IPC: J-STD-020; ComponentLink1Description: Manufacturer URL; ComponentLink1URL: http://www.silabs.com/; ComponentLink2Description: Datasheet; ComponentLink2URL: https://www.silabs.com/Support%20Documents/TechnicalDocs/si3056.pdf; ComponentLink3Description: Package Specification; ComponentLink3URL: http://www.silabs.com/Support%20Documents/TechnicalDocs/si2401.pdf
footprint SLAB-SOIC-16-NB_N (SOIC, 16-Leads, Body 9.9x3.9mm, Pitch 1.27mm, IPC Medium Density)
footprint SLAB-SOIC-16-NB_L (SOIC, 16-Leads, Body 9.9x3.9mm, Pitch 1.27mm, IPC High Density)
footprint SLAB-SOIC-16-NB_M (SOIC, 16-Leads, Body 9.9x3.9mm, Pitch 1.27mm, IPC Low Density)
pins: 1 MCLK (in) "Master Clock Input. High speed master clock input. Generally supplied by the system crystal clock or modem/DSP.", 2 ~{FSYNC} (io) "Frame Sync Output. Data framing signal that indicates the start and stop of a communication/data frame.", 3 SCLK (out) "Serial Port Bit Clock Output. Controls the serial data on SDO and latches the data on SDI.", 4 VD (power) "Digital Supply Voltage. Provides the 3.3 V digital supply voltage to the Si3056.", 5 SDO (hiz) "Serial Port Data Out. Serial communication data that is provided by the Si3056 to the modem/DSP.", 6 SDI (in) "Serial Port Data In. Serial communication and control data that is generated by the modem/DSP and presented as an input to the Si3056.", 7 FC/~{RGDT} (io) "Secondary Transfer Request Input/Ring Detect. An optional signal to instruct the Si3056 that control data is being requested in a secondary frame. When daisy chain is enabled, this pin becomes the ring detect output.  (See Datasheet)", 8 ~{RESET} (in) "Reset Input. An active low input that resets all control registers to a defined, initialized state. Also  used to bring the Si3056 out of sleep mode.", 9 C2A "Isolation Capacitor 2A. Connects to one side of the isolation capacitor C2. Used to communicate with the lineside device.", 10 C1A "Isolation Capacitor 1A. Connects to one side of the isolation capacitor C1. Used to communicate with the lineside device.", 11 AOUT/~{INT} (out) "Analog Speaker Out/Interrupt. Provides an analog output signal for driving a call progress speaker or a hardware  interrupt for multiple sources of interrupts.", 12 GND (power) "Ground. Connects to the system digital ground.", 13 VA (power) "Analog Supply Voltage. Provides the analog supply voltage for the Si3056.", 14 M0 (in) "Mode Select 0. The first of two mode select pins that selects the operation of the serial port/DSP interface.", 15 ~{RGDT}/FSD/M1 (io) "Ring Detect/Delayed Frame Sync/Mode Select 1. Output signal that indicates the status of a ring signal. Produces an active low rectified  version of the ring signal. When daisy chain is enabled, this signal becomes a delayed (See Datasheet)", 16 ~{OFHK} (in) "Off-Hook. An active low input control signal that provides a termination across TIP and RING for  line seizing and pulse dialing"

## Si3056-KS
designator U?
Global Serial Interface Direct Access Arrangement with Line Voltage Monitor, 0 to 70 degC, 16-pin SOIC, Tube; Manufacturer: Silicon Labs; PartNumber: Si3056-KS; AC Termination Settings: 4; 16; Host Interface: SSI; Line Voltage Monitor: TRUE; Sub-Family: Silicon DAAs; DatasheetVersion: Rev. 1.05; PackageReference: SOIC-16-NB; PackageDescription: 16-Pin Small-Outline Integrated Circuit, Body 9.9 x 3.9 mm, Pitch 1.27 mm; Supplier 1: Digi-Key; Supplier Part Number 1: SI3056-KS-ND; Supplier 2: Mouser; Supplier Part Number 2: 634-SI3056-KS; Packing: Tube; Region: Global; Mounting Technology: Surface Mount; Code_JEDEC: MS-012; Code_IPC: J-STD-020; ComponentLink1Description: Manufacturer URL; ComponentLink1URL: http://www.silabs.com/; ComponentLink2Description: Datasheet; ComponentLink2URL: https://www.silabs.com/Support%20Documents/TechnicalDocs/si3056.pdf; ComponentLink3Description: Package Specification; ComponentLink3URL: http://www.silabs.com/Support%20Documents/TechnicalDocs/si2401.pdf
footprint SLAB-SOIC-16-NB_N (SOIC, 16-Leads, Body 9.9x3.9mm, Pitch 1.27mm, IPC Medium Density)
footprint SLAB-SOIC-16-NB_L (SOIC, 16-Leads, Body 9.9x3.9mm, Pitch 1.27mm, IPC High Density)
footprint SLAB-SOIC-16-NB_M (SOIC, 16-Leads, Body 9.9x3.9mm, Pitch 1.27mm, IPC Low Density)
pins: 1 MCLK (in) "Master Clock Input. High speed master clock input. Generally supplied by the system crystal clock or modem/DSP.", 2 ~{FSYNC} (io) "Frame Sync Output. Data framing signal that indicates the start and stop of a communication/data frame.", 3 SCLK (out) "Serial Port Bit Clock Output. Controls the serial data on SDO and latches the data on SDI.", 4 VD (power) "Digital Supply Voltage. Provides the 3.3 V digital supply voltage to the Si3056.", 5 SDO (hiz) "Serial Port Data Out. Serial communication data that is provided by the Si3056 to the modem/DSP.", 6 SDI (in) "Serial Port Data In. Serial communication and control data that is generated by the modem/DSP and presented as an input to the Si3056.", 7 FC/~{RGDT} (io) "Secondary Transfer Request Input/Ring Detect. An optional signal to instruct the Si3056 that control data is being requested in a secondary frame. When daisy chain is enabled, this pin becomes the ring detect output.  (See Datasheet)", 8 ~{RESET} (in) "Reset Input. An active low input that resets all control registers to a defined, initialized state. Also  used to bring the Si3056 out of sleep mode.", 9 C2A "Isolation Capacitor 2A. Connects to one side of the isolation capacitor C2. Used to communicate with the lineside device.", 10 C1A "Isolation Capacitor 1A. Connects to one side of the isolation capacitor C1. Used to communicate with the lineside device.", 11 AOUT/~{INT} (out) "Analog Speaker Out/Interrupt. Provides an analog output signal for driving a call progress speaker or a hardware  interrupt for multiple sources of interrupts.", 12 GND (power) "Ground. Connects to the system digital ground.", 13 VA (power) "Analog Supply Voltage. Provides the analog supply voltage for the Si3056.", 14 M0 (in) "Mode Select 0. The first of two mode select pins that selects the operation of the serial port/DSP interface.", 15 ~{RGDT}/FSD/M1 (io) "Ring Detect/Delayed Frame Sync/Mode Select 1. Output signal that indicates the status of a ring signal. Produces an active low rectified  version of the ring signal. When daisy chain is enabled, this signal becomes a delayed (See Datasheet)", 16 ~{OFHK} (in) "Off-Hook. An active low input control signal that provides a termination across TIP and RING for  line seizing and pulse dialing"

## Si3056-KSR
designator U?
Global Serial Interface Direct Access Arrangement with Line Voltage Monitor, 0 to 70 degC, 16-pin SOIC, Tape and Reel; Manufacturer: Silicon Labs; PartNumber: Si3056-KSR; AC Termination Settings: 4; 16; Host Interface: SSI; Line Voltage Monitor: TRUE; Sub-Family: Silicon DAAs; DatasheetVersion: Rev. 1.05; PackageReference: SOIC-16-NB; PackageDescription: 16-Pin Small-Outline Integrated Circuit, Body 9.9 x 3.9 mm, Pitch 1.27 mm; Packing: Tape and Reel; Region: Global; Mounting Technology: Surface Mount; Code_JEDEC: MS-012; Code_IPC: J-STD-020; ComponentLink1Description: Manufacturer URL; ComponentLink1URL: http://www.silabs.com/; ComponentLink2Description: Datasheet; ComponentLink2URL: https://www.silabs.com/Support%20Documents/TechnicalDocs/si3056.pdf; ComponentLink3Description: Package Specification; ComponentLink3URL: http://www.silabs.com/Support%20Documents/TechnicalDocs/si2401.pdf
footprint SLAB-SOIC-16-NB_N (SOIC, 16-Leads, Body 9.9x3.9mm, Pitch 1.27mm, IPC Medium Density)
footprint SLAB-SOIC-16-NB_L (SOIC, 16-Leads, Body 9.9x3.9mm, Pitch 1.27mm, IPC High Density)
footprint SLAB-SOIC-16-NB_M (SOIC, 16-Leads, Body 9.9x3.9mm, Pitch 1.27mm, IPC Low Density)
pins: 1 MCLK (in) "Master Clock Input. High speed master clock input. Generally supplied by the system crystal clock or modem/DSP.", 2 ~{FSYNC} (io) "Frame Sync Output. Data framing signal that indicates the start and stop of a communication/data frame.", 3 SCLK (out) "Serial Port Bit Clock Output. Controls the serial data on SDO and latches the data on SDI.", 4 VD (power) "Digital Supply Voltage. Provides the 3.3 V digital supply voltage to the Si3056.", 5 SDO (hiz) "Serial Port Data Out. Serial communication data that is provided by the Si3056 to the modem/DSP.", 6 SDI (in) "Serial Port Data In. Serial communication and control data that is generated by the modem/DSP and presented as an input to the Si3056.", 7 FC/~{RGDT} (io) "Secondary Transfer Request Input/Ring Detect. An optional signal to instruct the Si3056 that control data is being requested in a secondary frame. When daisy chain is enabled, this pin becomes the ring detect output.  (See Datasheet)", 8 ~{RESET} (in) "Reset Input. An active low input that resets all control registers to a defined, initialized state. Also  used to bring the Si3056 out of sleep mode.", 9 C2A "Isolation Capacitor 2A. Connects to one side of the isolation capacitor C2. Used to communicate with the lineside device.", 10 C1A "Isolation Capacitor 1A. Connects to one side of the isolation capacitor C1. Used to communicate with the lineside device.", 11 AOUT/~{INT} (out) "Analog Speaker Out/Interrupt. Provides an analog output signal for driving a call progress speaker or a hardware  interrupt for multiple sources of interrupts.", 12 GND (power) "Ground. Connects to the system digital ground.", 13 VA (power) "Analog Supply Voltage. Provides the analog supply voltage for the Si3056.", 14 M0 (in) "Mode Select 0. The first of two mode select pins that selects the operation of the serial port/DSP interface.", 15 ~{RGDT}/FSD/M1 (io) "Ring Detect/Delayed Frame Sync/Mode Select 1. Output signal that indicates the status of a ring signal. Produces an active low rectified  version of the ring signal. When daisy chain is enabled, this signal becomes a delayed (See Datasheet)", 16 ~{OFHK} (in) "Off-Hook. An active low input control signal that provides a termination across TIP and RING for  line seizing and pulse dialing"

## Si3060-F-FS
designator U?
Global Line-Side DAA for Embedded System-Side Module, 0 to 70 degC, 16-pin SOIC, Tube; Manufacturer: Silicon Labs; PartNumber: Si3060-F-FS; AC Termination Settings: 1; Host Interface: Integrated in host; Line Voltage Monitor: FALSE; Region: FCC; Sub-Family: Silicon DAAs; DatasheetVersion: Rev. 0.9; PackageReference: SOIC-16-NB; PackageDescription: 16-Pin Small-Outline Integrated Circuit, Body 9.9 x 3.9 mm, Pitch 1.27 mm; Packing: Tube; Mounting Technology: Surface Mount; Code_JEDEC: MS-012; Code_IPC: J-STD-020; ComponentLink1Description: Manufacturer URL; ComponentLink1URL: http://www.silabs.com/; ComponentLink2Description: Datasheet; ComponentLink2URL: http://www.silabs.com/Support%20Documents/TechnicalDocs/si306x.pdf; ComponentLink3Description: Package Specification; ComponentLink3URL: http://www.silabs.com/Support%20Documents/TechnicalDocs/si2401.pdf
footprint SLAB-SOIC-16-NB_N (SOIC, 16-Leads, Body 9.9x3.9mm, Pitch 1.27mm, IPC Medium Density)
footprint SLAB-SOIC-16-NB_L (SOIC, 16-Leads, Body 9.9x3.9mm, Pitch 1.27mm, IPC High Density)
footprint SLAB-SOIC-16-NB_M (SOIC, 16-Leads, Body 9.9x3.9mm, Pitch 1.27mm, IPC Low Density)
pins: 1 QE "Transistor Emitter. Connects to the emitter of Q3.", 2 DCT (out) "DC Termination. Provides dc termination to the telephone network.", 3 RX (in) "Receive Input. Serves as the receive side input from the telephone network.", 4 IB (in) "Internal Bias. Provides a bias voltage to the device.", 5 C1B "Isolation Capacitor 1B. Connects to one side of isolation capacitor C1. Used to communicate with the system-side device.", 6 C2B "Isolation Capacitor 2B. Connects to one side of isolation capacitor C2. Used to communicate with the system-side device.", 7 VREG (power) "Voltage Regulator. Connects to an external capacitor to provide bypassing for an internal power supply.", 8 RNG1 (in) "Ring 1. Connects through a resistor to the RING lead of the telephone line.", 9 RNG2 (in) "Ring 2. Connects through a resistor to the RING lead of the telephone line.", 10 VREG2 (power) "Voltage Regulator 2. Connects to an external capacitor to provide bypassing for an internal power supply.", 11 SC (in) "SC Connection. Enables external transistor network. Should be tied through a 0 ohm resistor to IGND.", 12 QE2 "Transistor Emitter 2. Connects to the emitter of Q4.", 13 QB (out) "Transistor Base. Connects to the base of transistor Q4.", 14 DCT3 (out) "DC Termination 3. Provides dc termination to the telephone network.", 15 IGND (power) "Isolated Ground.Connects to ground on the line-side interface.", 16 DCT2 (out) "DC Termination 2. Provides dc termination to the telephone network"

## Si3061-F-FS
designator U?
Global Line-Side DAA for Embedded System-Side Module, 0 to 70 degC, 16-pin SOIC, Tube; Manufacturer: Silicon Labs; PartNumber: Si3061-F-FS; AC Termination Settings: 4; Host Interface: Integrated in host; Line Voltage Monitor: FALSE; Sub-Family: Silicon DAAs; DatasheetVersion: Rev. 0.9; PackageReference: SOIC-16-NB; PackageDescription: 16-Pin Small-Outline Integrated Circuit, Body 9.9 x 3.9 mm, Pitch 1.27 mm; Packing: Tube; Region: Global; Mounting Technology: Surface Mount; Code_JEDEC: MS-012; Code_IPC: J-STD-020; ComponentLink1Description: Manufacturer URL; ComponentLink1URL: http://www.silabs.com/; ComponentLink2Description: Datasheet; ComponentLink2URL: http://www.silabs.com/Support%20Documents/TechnicalDocs/si306x.pdf; ComponentLink3Description: Package Specification; ComponentLink3URL: http://www.silabs.com/Support%20Documents/TechnicalDocs/si2401.pdf
footprint SLAB-SOIC-16-NB_N (SOIC, 16-Leads, Body 9.9x3.9mm, Pitch 1.27mm, IPC Medium Density)
footprint SLAB-SOIC-16-NB_L (SOIC, 16-Leads, Body 9.9x3.9mm, Pitch 1.27mm, IPC High Density)
footprint SLAB-SOIC-16-NB_M (SOIC, 16-Leads, Body 9.9x3.9mm, Pitch 1.27mm, IPC Low Density)
pins: 1 QE "Transistor Emitter. Connects to the emitter of Q3.", 2 DCT (out) "DC Termination. Provides dc termination to the telephone network.", 3 RX (in) "Receive Input. Serves as the receive side input from the telephone network.", 4 IB (in) "Internal Bias. Provides a bias voltage to the device.", 5 C1B "Isolation Capacitor 1B. Connects to one side of isolation capacitor C1. Used to communicate with the system-side device.", 6 C2B "Isolation Capacitor 2B. Connects to one side of isolation capacitor C2. Used to communicate with the system-side device.", 7 VREG (power) "Voltage Regulator. Connects to an external capacitor to provide bypassing for an internal power supply.", 8 RNG1 (in) "Ring 1. Connects through a resistor to the RING lead of the telephone line.", 9 RNG2 (in) "Ring 2. Connects through a resistor to the RING lead of the telephone line.", 10 VREG2 (power) "Voltage Regulator 2. Connects to an external capacitor to provide bypassing for an internal power supply.", 11 SC (in) "SC Connection. Enables external transistor network. Should be tied through a 0 ohm resistor to IGND.", 12 QE2 "Transistor Emitter 2. Connects to the emitter of Q4.", 13 QB (out) "Transistor Base. Connects to the base of transistor Q4.", 14 DCT3 (out) "DC Termination 3. Provides dc termination to the telephone network.", 15 IGND (power) "Isolated Ground.Connects to ground on the line-side interface.", 16 DCT2 (out) "DC Termination 2. Provides dc termination to the telephone network"

## Si3062-F-FS
designator U?
Global Line-Side DAA for Embedded System-Side Module with Line Voltage Monitor, 0 to 70 degC, 16-pin SOIC, Tube; Manufacturer: Silicon Labs; PartNumber: Si3062-F-FS; AC Termination Settings: 1; Host Interface: Integrated in host; Line Voltage Monitor: TRUE; Region: FCC; Sub-Family: Silicon DAAs; DatasheetVersion: Rev. 0.9; PackageReference: SOIC-16-NB; PackageDescription: 16-Pin Small-Outline Integrated Circuit, Body 9.9 x 3.9 mm, Pitch 1.27 mm; Supplier 1: Digi-Key; Supplier Part Number 1: SI3062-F-FS-ND; Supplier 2: Mouser; Supplier Part Number 2: 634-SI3062-F-FS; Packing: Tube; Mounting Technology: Surface Mount; Code_JEDEC: MS-012; Code_IPC: J-STD-020; ComponentLink1Description: Manufacturer URL; ComponentLink1URL: http://www.silabs.com/; ComponentLink2Description: Datasheet; ComponentLink2URL: http://www.silabs.com/Support%20Documents/TechnicalDocs/si306x.pdf; ComponentLink3Description: Package Specification; ComponentLink3URL: http://www.silabs.com/Support%20Documents/TechnicalDocs/si2401.pdf
footprint SLAB-SOIC-16-NB_N (SOIC, 16-Leads, Body 9.9x3.9mm, Pitch 1.27mm, IPC Medium Density)
footprint SLAB-SOIC-16-NB_L (SOIC, 16-Leads, Body 9.9x3.9mm, Pitch 1.27mm, IPC High Density)
footprint SLAB-SOIC-16-NB_M (SOIC, 16-Leads, Body 9.9x3.9mm, Pitch 1.27mm, IPC Low Density)
pins: 1 QE "Transistor Emitter. Connects to the emitter of Q3.", 2 DCT (out) "DC Termination. Provides dc termination to the telephone network.", 3 RX (in) "Receive Input. Serves as the receive side input from the telephone network.", 4 IB (in) "Internal Bias. Provides a bias voltage to the device.", 5 C1B "Isolation Capacitor 1B. Connects to one side of isolation capacitor C1. Used to communicate with the system-side device.", 6 C2B "Isolation Capacitor 2B. Connects to one side of isolation capacitor C2. Used to communicate with the system-side device.", 7 VREG (power) "Voltage Regulator. Connects to an external capacitor to provide bypassing for an internal power supply.", 8 RNG1 (in) "Ring 1. Connects through a resistor to the RING lead of the telephone line.", 9 RNG2 (in) "Ring 2. Connects through a resistor to the RING lead of the telephone line.", 10 VREG2 (power) "Voltage Regulator 2. Connects to an external capacitor to provide bypassing for an internal power supply.", 11 SC (in) "SC Connection. Enables external transistor network. Should be tied through a 0 ohm resistor to IGND.", 12 QE2 "Transistor Emitter 2. Connects to the emitter of Q4.", 13 QB (out) "Transistor Base. Connects to the base of transistor Q4.", 14 DCT3 (out) "DC Termination 3. Provides dc termination to the telephone network.", 15 IGND (power) "Isolated Ground.Connects to ground on the line-side interface.", 16 DCT2 (out) "DC Termination 2. Provides dc termination to the telephone network"

## Si3063-F-FS
designator U?
Global Line-Side DAA for Embedded System-Side Module with Line Voltage Monitor, 0 to 70 degC, 16-pin SOIC, Tube; Manufacturer: Silicon Labs; PartNumber: Si3063-F-FS; AC Termination Settings: 4; Host Interface: Integrated in host; Line Voltage Monitor: TRUE; Sub-Family: Silicon DAAs; DatasheetVersion: Rev. 0.9; PackageReference: SOIC-16-NB; PackageDescription: 16-Pin Small-Outline Integrated Circuit, Body 9.9 x 3.9 mm, Pitch 1.27 mm; Supplier 1: Digi-Key; Supplier Part Number 1: SI3063-F-FS-ND; Supplier 2: Mouser; Supplier Part Number 2: 634-SI3063-F-FS; Packing: Tube; Region: Global; Mounting Technology: Surface Mount; Code_JEDEC: MS-012; Code_IPC: J-STD-020; ComponentLink1Description: Manufacturer URL; ComponentLink1URL: http://www.silabs.com/; ComponentLink2Description: Datasheet; ComponentLink2URL: http://www.silabs.com/Support%20Documents/TechnicalDocs/si306x.pdf; ComponentLink3Description: Package Specification; ComponentLink3URL: http://www.silabs.com/Support%20Documents/TechnicalDocs/si2401.pdf
footprint SLAB-SOIC-16-NB_N (SOIC, 16-Leads, Body 9.9x3.9mm, Pitch 1.27mm, IPC Medium Density)
footprint SLAB-SOIC-16-NB_L (SOIC, 16-Leads, Body 9.9x3.9mm, Pitch 1.27mm, IPC High Density)
footprint SLAB-SOIC-16-NB_M (SOIC, 16-Leads, Body 9.9x3.9mm, Pitch 1.27mm, IPC Low Density)
pins: 1 QE "Transistor Emitter. Connects to the emitter of Q3.", 2 DCT (out) "DC Termination. Provides dc termination to the telephone network.", 3 RX (in) "Receive Input. Serves as the receive side input from the telephone network.", 4 IB (in) "Internal Bias. Provides a bias voltage to the device.", 5 C1B "Isolation Capacitor 1B. Connects to one side of isolation capacitor C1. Used to communicate with the system-side device.", 6 C2B "Isolation Capacitor 2B. Connects to one side of isolation capacitor C2. Used to communicate with the system-side device.", 7 VREG (power) "Voltage Regulator. Connects to an external capacitor to provide bypassing for an internal power supply.", 8 RNG1 (in) "Ring 1. Connects through a resistor to the RING lead of the telephone line.", 9 RNG2 (in) "Ring 2. Connects through a resistor to the RING lead of the telephone line.", 10 VREG2 (power) "Voltage Regulator 2. Connects to an external capacitor to provide bypassing for an internal power supply.", 11 SC (in) "SC Connection. Enables external transistor network. Should be tied through a 0 ohm resistor to IGND.", 12 QE2 "Transistor Emitter 2. Connects to the emitter of Q4.", 13 QB (out) "Transistor Base. Connects to the base of transistor Q4.", 14 DCT3 (out) "DC Termination 3. Provides dc termination to the telephone network.", 15 IGND (power) "Isolated Ground.Connects to ground on the line-side interface.", 16 DCT2 (out) "DC Termination 2. Provides dc termination to the telephone network"